# EAGLE library part PTMUX6236RUMR (library TexasInstruments)
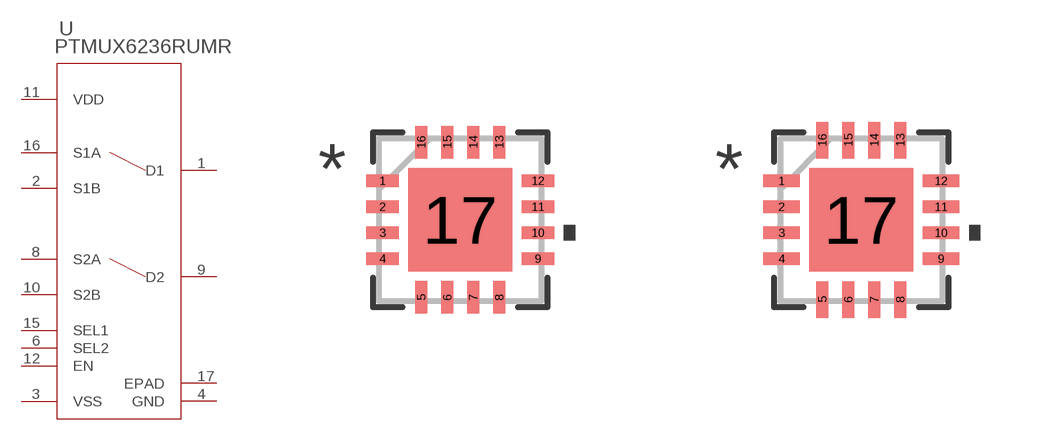
[diagram p18: symbol with the pads of WQFN16_RUM_TEX; footprints WQFN16_RUM_TEX, WQFN16_RUM_TEX-M]

Designator prefix U

## PTMUX6236RUMR (COPYRIGHT: Copyright (C) 2023 Ultra Librarian. All rights reserved.; MANUFACTURER_PART_NUMBER: PTMUX6236RUMR; MFR_NAME: Texas Instruments; TYPE: Interface)  [WQFN16_RUM_TEX]
1  D1
2  S1B
3  VSS  pwr
4  GND  pas
6  SEL2  in
8  S2A
9  D2
10  S2B
11  VDD  pwr
12  EN  in
15  SEL1  in
16  S1A
17  EPAD  pas

## PTMUX6236RUMRWQFN16_RUM_TEX-M (COPYRIGHT: Copyright (C) 2023 Ultra Librarian. All rights reserved.; MANUFACTURER_PART_NUMBER: PTMUX6236RUMR; MFR_NAME: Texas Instruments; TYPE: Interface)  [WQFN16_RUM_TEX-M]
Pads as for WQFN16_RUM_TEX

## PTMUX6236RUMRWQFN16_RUM_TEX-L (COPYRIGHT: Copyright (C) 2023 Ultra Librarian. All rights reserved.; MANUFACTURER_PART_NUMBER: PTMUX6236RUMR; MFR_NAME: Texas Instruments; TYPE: Interface)  [WQFN16_RUM_TEX-L]
Pads as for WQFN16_RUM_TEX

## Footprint WQFN16_RUM_TEX (pad centres in mm)
smd 0.813 x 0.305: 1 -1.943,0.975; 2 -1.943,0.325; 3 -1.943,-0.325; 4 -1.943,-0.975; 9 1.943,-0.975; 10 1.943,-0.325; 11 1.943,0.325; 12 1.943,0.975
smd 0.305 x 0.813: 5 -0.975,-1.943; 6 -0.325,-1.943; 7 0.325,-1.943; 8 0.975,-1.943; 13 0.975,1.943; 14 0.325,1.943; 15 -0.325,1.943; 16 -0.975,1.943
smd 2.591 x 2.591: 17 0,0

## Footprint WQFN16_RUM_TEX-M (pad centres in mm)
smd 0.914 x 0.305: 1 -1.994,0.975; 2 -1.994,0.325; 3 -1.994,-0.325; 4 -1.994,-0.975; 9 1.994,-0.975; 10 1.994,-0.325; 11 1.994,0.325; 12 1.994,0.975
smd 0.305 x 0.914: 5 -0.975,-1.994; 6 -0.325,-1.994; 7 0.325,-1.994; 8 0.975,-1.994; 13 0.975,1.994; 14 0.325,1.994; 15 -0.325,1.994; 16 -0.975,1.994
smd 2.591 x 2.591: 17 0,0

## Footprint WQFN16_RUM_TEX-L (pad centres in mm)
smd 0.711 x 0.305: 1 -1.892,0.975; 2 -1.892,0.325; 3 -1.892,-0.325; 4 -1.892,-0.975; 9 1.892,-0.975; 10 1.892,-0.325; 11 1.892,0.325; 12 1.892,0.975
smd 0.305 x 0.711: 5 -0.975,-1.892; 6 -0.325,-1.892; 7 0.325,-1.892; 8 0.975,-1.892; 13 0.975,1.892; 14 0.325,1.892; 15 -0.325,1.892; 16 -0.975,1.892
smd 2.591 x 2.591: 17 0,0